# Altium schematic symbol library power_sch_lib.SchLib: 3 symbols
Pins are listed as number, name and electrical type; pins without a type are passive.

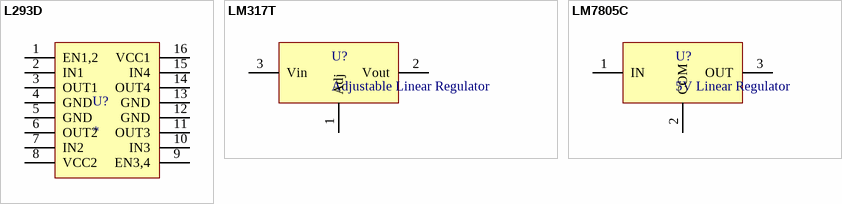
[diagram p0: symbols L293D to LM7805C]

## L293D
designator U?
footprint DIP16
pins: 1 EN1,2, 2 IN1, 3 OUT1, 4 GND, 5 GND, 6 OUT2, 7 IN2, 8 VCC2, 9 EN3,4, 10 IN3, 11 OUT3, 12 GND, 13 GND, 14 OUT4, 15 IN4, 16 VCC1

## LM317T
designator U?, comment Adjustable Linear Regulator
pins: 1 Adj, 2 Vout, 3 Vin

## LM7805C
designator U?, comment 5V Linear Regulator
pins: 1 IN, 2 COM, 3 OUT